# Altium footprint library module.PcbLib: 5 footprints
Each footprint in its own frame and in the unit in brackets; x right, y up, seen from the top. Pads: shape width x height; smd on the part's side, far side on the other; paste and mask are expansions set on the pad; w line width, h text height; cw(c..) or ccw(c..) is an arc to the next point about the centre after c.
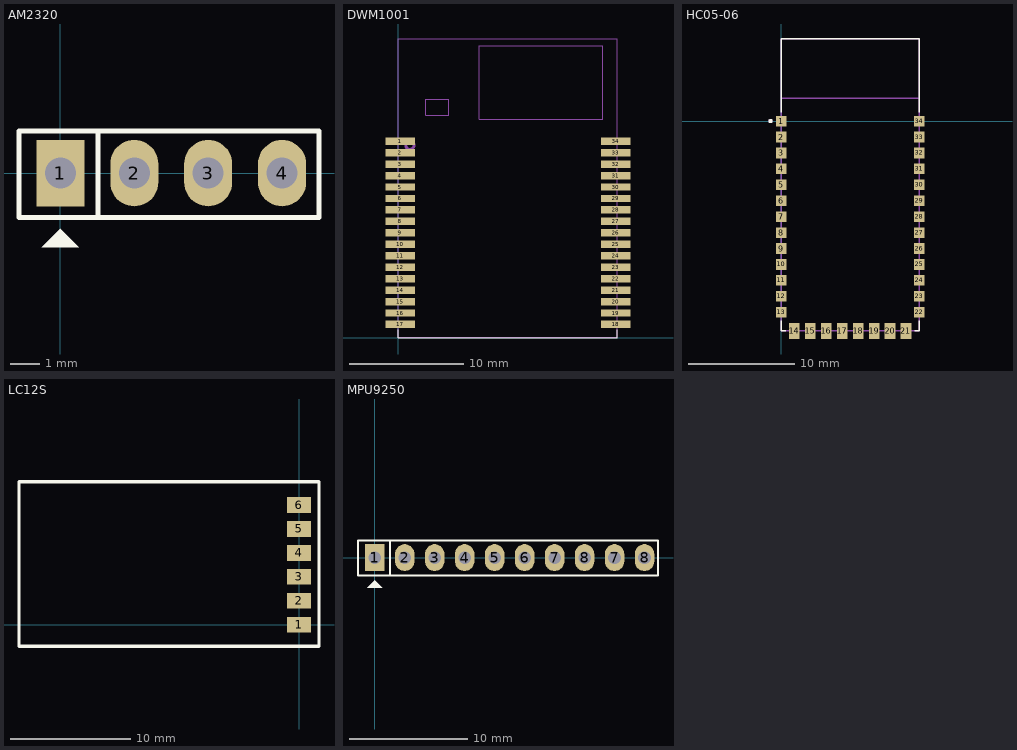
[diagram p0: the footprints below, top view; thin cyan lines are the x and y axes]

## AM2320 [mil]
pads (4):
  rect 65x90 hole 42: 1(0,0)
  oval 65x90 hole 42: 2(100,0) 3(200,0) 4(300,0)
Top Overlay:
  region: 0,-75 -25,-100 25,-100
  lines w7: 51,-60 51,56 ; -56,-60 350,-60 350,57 -56,57 -56,-60
3D body "AM2320-angled.step": height 192.44, standoff -92.99, extent -91.38,-11.06 385,731.07

## DWM1001 [mm] "DWM1001 MODULE"
height 4
pads (34):
  rect 2.54x0.65 smd: 1(0.16,17.15) 2(0.16,16.15) 3(0.16,15.15) 4(0.16,14.15) 5(0.16,13.15) 6(0.16,12.15) 7(0.16,11.15) 8(0.16,10.15) 9(0.16,9.15) 10(0.16,8.15) 11(0.16,7.15) 12(0.16,6.15) 13(0.16,5.15) 14(0.16,4.15) 15(0.16,3.15) 16(0.16,2.15) 17(0.16,1.15) 18(18.97,1.15) 19(18.97,2.15) 20(18.97,3.15) 21(18.97,4.15) 22(18.97,5.15) 23(18.97,6.15) 24(18.97,7.15) 25(18.97,8.15) 26(18.97,9.15) 27(18.97,10.15) 28(18.97,11.15) 29(18.97,12.15) 30(18.97,13.15) 31(18.97,14.15) 32(18.97,15.15) 33(18.97,16.15) 34(18.97,17.15)
Top Overlay:
  lines w0.1: 0,0.7 0,0 19.1,0 19.1,0.7
Mechanical 1:
  lines w0.1: 0,0 0,26.075 19.1,26.075 19.1,0.025 0,0.025 0,0.9
Mechanical 16:
  circle w0.254: c1,16.8 r0.361
  lines w0.1: 0,0.025 0,26.075 19.1,26.075 19.1,0.025 0,0.025 ; 2.4,19.4 2.4,20.8 4.4,20.8 4.4,19.4 2.4,19.4 ; 7.075,19.05 7.075,25.475 17.85,25.475 17.85,19.05 7.075,19.05
Mechanical 29:
  text ".Designator" at 5.6,11.6 h0.8
3D body "dm1_b2_V2.step": height 4.6, standoff 0.03, extent 0,0 19.125,26.125

## HC05-06 [mm]
pads (34):
  rect 1x1 smd: 1(-0.023,0.023) 2(-0.023,-1.477) 3(-0.023,-2.977) 4(-0.023,-4.477) 5(-0.023,-5.977) 6(-0.023,-7.477) 7(-0.023,-8.977) 8(-0.023,-10.477) 9(-0.023,-11.977) 10(-0.023,-13.477) 11(-0.023,-14.977) 12(-0.023,-16.477) 13(-0.023,-17.977) 22(12.977,-17.977) 23(12.977,-16.477) 24(12.977,-14.977) 25(12.977,-13.477) 26(12.977,-11.977) 27(12.977,-10.477) 28(12.977,-8.977) 29(12.977,-7.477) 30(12.977,-5.977) 31(12.977,-4.477) 32(12.977,-2.977) 33(12.977,-1.477) 34(12.977,0.023)
  rect 1x1.524 smd: 14(1.227,-19.727) 15(2.727,-19.727) 16(4.227,-19.727) 17(5.727,-19.727) 18(7.227,-19.727) 19(8.727,-19.727) 20(10.227,-19.727) 21(11.727,-19.727)
Top Overlay:
  circle w0.2: c-1.023,0.023 r0.1
  lines w0.127: -0.023,-18.791 -0.023,-19.727 0.413,-19.727 ; -0.023,0.837 -0.023,7.747 12.977,7.747 12.977,0.837 ; 12.541,-19.727 12.977,-19.727 12.977,-18.791
Bottom Overlay:
  lines w0.254: 0,2.159 0,7.747 12.954,7.747 12.954,2.159 0,2.159
Mechanical 4:
  circle w0.2: c-1.023,0.023 r0.1
  circle w0.2: c-1.023,0.023 r0.1
  lines w0.127: -0.023,6.973 -0.023,2.173 ; 12.977,6.973 12.977,2.173 ; -0.023,-19.727 12.977,-19.727 ; -0.023,-19.727 -0.023,2.173 ; -0.023,-19.727 12.977,-19.727 ; -0.023,-19.727 -0.023,2.173 ; -0.023,2.173 12.977,2.173 ; -0.023,2.173 -0.023,7.747 12.977,7.747 12.977,2.173 ; -0.023,2.173 12.977,2.173 ; 12.977,-19.727 12.977,2.173 ; 12.977,-19.727 12.977,2.173
3D body "HC05-06.STEP": height 4.3, standoff 0, extent -0.023,-19.304 12.977,7.696

## LC12S [mm]
pads (6):
  rect 2x1.3 smd: 1(0,0) 2(0,2) 3(0,4) 4(0,6) 5(0,8) 6(0,10)
Top Overlay:
  lines w0.254: -23.368,-1.778 -23.368,11.938 1.651,11.938 1.651,-1.778 -23.368,-1.778
Bottom Overlay:
  lines w0.254: -23.368,-1.778 -16.129,-1.778 -16.129,11.938 -23.368,11.938 -23.368,-1.778
3D body "LC12S.STEP": height 2, standoff 0, extent -23.3,-1.77 0,11.93

## MPU9250 [mil] "JP8"
height 200
pads (10):
  rect 65x90 hole 42: 1(0,0)
  oval 65x90 hole 42: 2(100,0) 3(200,0) 4(300,0) 5(400,0) 6(500,0) 7(600,0) 7(800,0) 8(700,0) 8(900,0)
Top Overlay:
  region: 0,-75 -25,-100 25,-100
  lines w7: 51,-60 51,56 ; -56,-60 -56,57 945,57 945,-60 -56,-60
3D body "MPU-9250.stp": height 266.97, standoff -235.99, extent -50,-60.55 950,530